# Altium schematic symbol library Schlib1.SchLib: 5 symbols
Pins are listed as number, name and electrical type; pins without a type are passive.

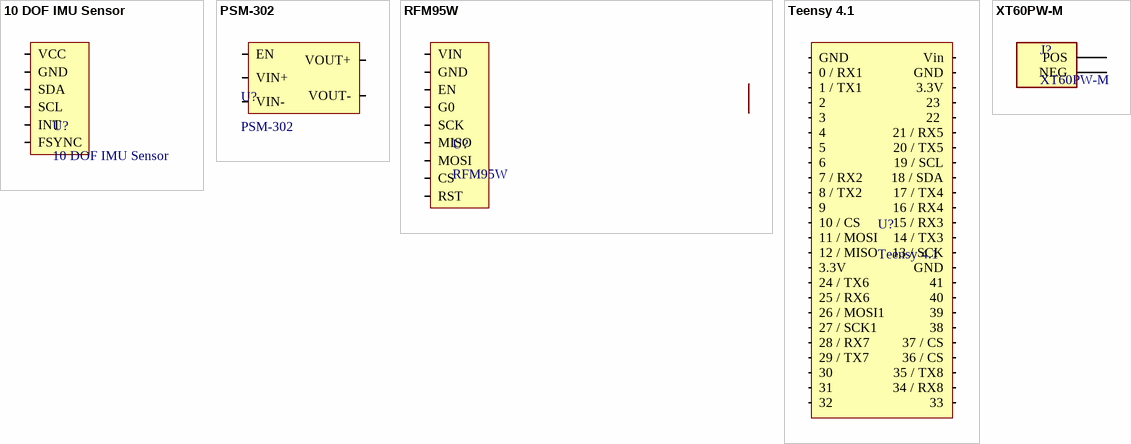
[diagram p0: symbols 10 DOF IMU Sensor to XT60PW-M]

## 10 DOF IMU Sensor
designator U?
10 DOF IMU Sensor, ICM20948 Onboard, Low Power, High Precision
footprint 10 DOF IMU Sensor
pins: 1 VCC, 2 GND, 3 SDA, 4 SCL, 5 INT, 6 FSYNC

## PSM-302
designator U?
3-15VDC to 5VDC Step Down Regulator/Converter Module @ 600mA
footprint PSM-302
pins: 1 EN, 2 VIN+, 3 VIN-, 4 VOUT-, 5 VOUT+

## RFM95W
designator U?
Adafruit RFM95W LoRa Radio Transceiver Breakout - 868 or 915 MHz; Manufacturer: Adafruit Industries; Manufacturer Part Number: 3072; Supplier: Digikey; Supplier Part Number: 1528-1667-ND; RoHS: No; Category: RF Semiconductors and Devices; Stock: 109; Pricing: 1=19.95 (USD); ComponentLink1URL: https://learn.adafruit.com/downloads/pdf/adafruit-rfm69hcw-and-rfm96-rfm95-rfm98-lora-packet-padio-breakouts.pdf?src-supplier=Digikey; ComponentLink1Description: https://learn.adafruit.com/downloads/pdf/adafruit-rfm69hcw-and-rfm96-rfm95-rfm98-lora-packet-padio-breakouts.pdf?src-supplier=Digikey
footprint RFM95W
pins: 1 VIN, 2 GND, 3 EN, 4 G0, 5 SCK, 6 MISO, 7 MOSI, 8 CS, 9 RST

## Teensy 4.1
designator U?
iMXRT1062 Microcontroller Development Board 600MHz CPU 1GB RAM 8MB Flash; Manufacturer: SparkFun; Manufacturer Part Number: DEV-16771; Supplier: Digikey; Supplier Part Number: 1568-DEV-16771-ND; RoHS: No; Category: Embedded Processors and Controllers; Stock: 2404; Pricing: 1=37.2 (USD); ComponentLink1URL: https://media.digikey.com/pdf/Data%20Sheets/Sparkfun%20PDFs/DEV-16771_Web.pdf?src-supplier=Digikey; ComponentLink1Description: https://media.digikey.com/pdf/Data%20Sheets/Sparkfun%20PDFs/DEV-16771_Web.pdf?src-supplier=Digikey
footprint MODULE_DEV-16771
pins: 1 GND, 2 0 / RX1 , 3 1 / TX1, 4 2, 5 3, 6 4, 7 5, 8 6, 9 7 / RX2, 10 8 / TX2, 11 9, 12 10 / CS, 13 11 / MOSI, 14 12 / MISO, 15 3.3V, 16 24 / TX6, 17 25 / RX6, 18 26 / MOSI1, 19 27 / SCK1, 20 28 / RX7, 21 29 / TX7, 22 30, 23 31, 24 32, 25 33, 26 34 / RX8, 27 35 / TX8, 28 36 / CS, 29 37 / CS, 30 38, 31 39, 32 40, 33 41, 34 GND, 35 13 / SCK, 36 14 / TX3, 37 15 / RX3, 38 16 / RX4, 39 17 / TX4, 40 18 / SDA, 41 19 / SCL, 42 20 / TX5, 43 21 / RX5, 44 22 , 45 23 , 46 3.3V, 47 GND, 48 Vin

## XT60PW-M
designator J?
XT60PW-M Through Hole Lithium-Ion Model Connectors RoHS; Parameter 1: *
footprint AMASS_XT60PW-M
pins: 1 POS, 2 NEG